# Altium footprint library PCB1.PcbLib: 24 footprints (part 1 of 2)
Each footprint in its own frame and in the unit in brackets; x right, y up, seen from the top. Pads: shape width x height; smd on the part's side, far side on the other; paste and mask are expansions set on the pad; w line width, h text height; cw(c..) or ccw(c..) is an arc to the next point about the centre after c.
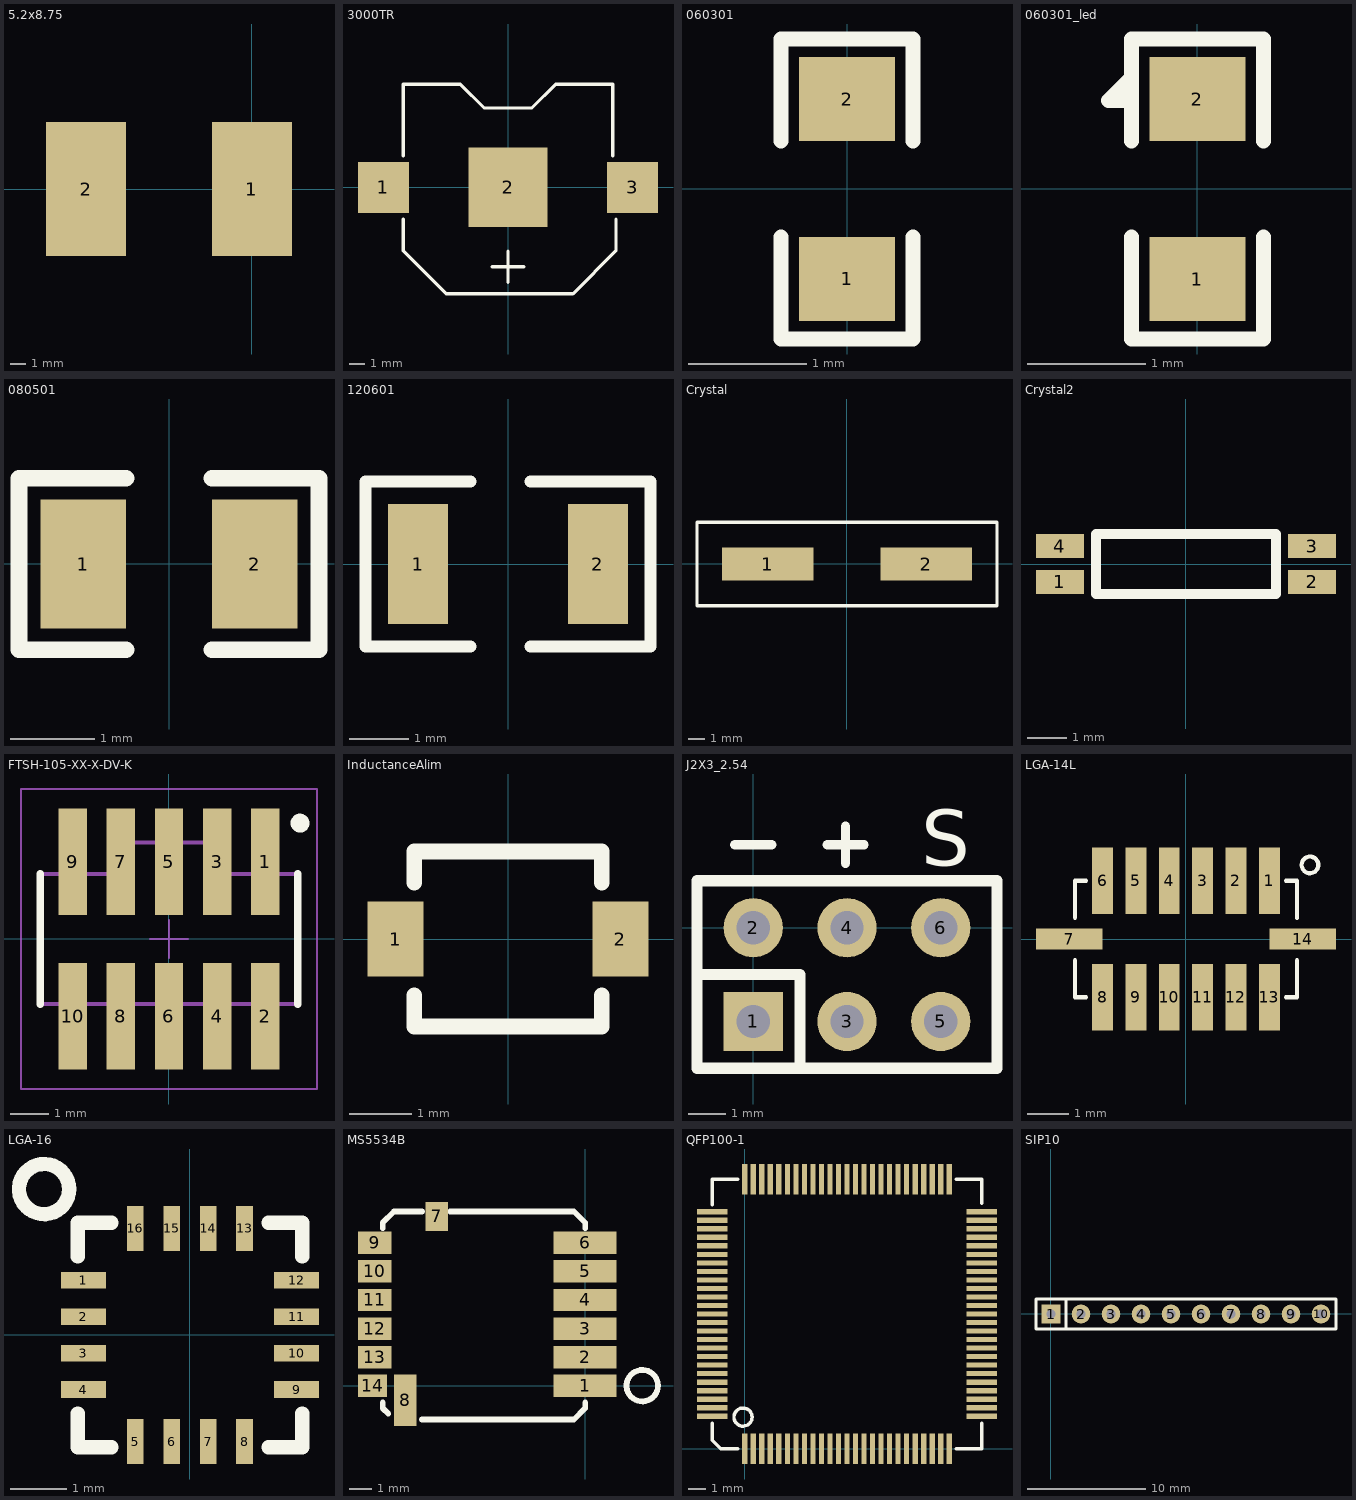
[diagram p0: the footprints below, top view; thin cyan lines are the x and y axes]

## 5.2x8.75 [mm] "PowerResistorFootPrint"
height 1.1
pads (2):
  rect 5.2x8.75 smd: 1(0,0) 2(-10.8,0)

## 3000TR [mm] "HOLDER BATTERY COIN 12MM DIA SMD"
height 3.2
pads (3):
  rect 3.2x3.2 smd: 1(-7.85,0) 3(7.85,0)
  rect 5x5 smd: 2(0,0)
Top Overlay:
  lines w0.2: -6.6,-2 -6.6,-4 -3.9,-6.7 -2,-6.7 2,-6.7 4.1,-6.7 6.8,-4 6.8,-2 ; -6.6,2 -6.6,6.5 -3,6.5 -1.5,5 1.5,5 3,6.5 6.6,6.5 6.6,2 ; -1,-5 1,-5 ; 0,-6 0,-4

## 060301 [mil]
height 43.31
pads (2):
  rect 32.01x27.99 smd: 1(0,-30) 2(0,30)
Top Overlay:
  lines w5: -22,-16 -22,-50 22,-50 22,-16 ; -22,16 -22,50 22,50 22,16

## 060301_led [mil] "LED"
height 43.31
pads (2):
  rect 32.01x27.99 smd: 1(0,-30) 2(0,30)
Top Overlay:
  lines w5: -22,-16 -22,-50 22,-50 22,-16 ; -22,16 -22,50 22,50 22,16 ; -22,29.53 -29.53,29.53 -22,37.06

## 080501 [mil]
height 43.31
pads (2):
  rect 40x60 smd: 1(-40,0) 2(40,0)
Top Overlay:
  lines w7.87: -20,-40 -70,-40 -70,40 -20,40 ; 20,-40 70,-40 70,40 20,40

## 120601 [mil]
pads (2):
  rect 40x80 smd: 1(-60,0) 2(60,0)
Top Overlay:
  lines w7.87: -25,-55 -95,-55 -95,-45 -95,55 -25,55 ; 15,-55 95,-55 95,55 15,55

## Crystal [mm]
height 1.1
pads (2):
  rect 5.5x2 smd: 1(-4.75,0) 2(4.75,0)
Top Overlay:
  lines w0.2: -9,-2.5 9,-2.5 9,2.5 -9,2.5 -9,0 -9,-2.5

## Crystal2 [mm]
height 2.5
pads (4):
  rect 1.2x0.6 smd: 1(-3.15,-0.45) 2(3.15,-0.45) 3(3.15,0.45) 4(-3.15,0.45)
Top Overlay:
  lines w0.254: -2.25,-0.75 -2.25,0.75 2.25,0.75 2.25,-0.75 -2.25,-0.75

## FTSH-105-XX-X-DV-K [mm] "1.27mm pitch, 10 pin, terminal strip; keyed"
height 5.97
pads (10):
  rect 0.75x2.8 smd mask+0: 1(2.54,2.03) 2(2.54,-2.03) 3(1.27,2.03) 4(1.27,-2.03) 5(0,2.03) 6(0,-2.03) 7(-1.27,2.03) 8(-1.27,-2.03) 9(-2.54,2.03) 10(-2.54,-2.03)
Top Overlay:
  circle w0.25: c3.45,3.05 r0.125
  lines w0.2: -3.391,-1.715 -3.391,1.715 ; 3.391,-1.715 3.391,1.715
Mechanical 12:
  lines w0.001: -3.391,-1.715 -3.391,1.715 -1.08,1.715 -1.08,2.54 1.08,2.54 1.08,1.715 3.384,1.715 3.391,1.708 3.391,-1.715 -3.391,-1.715
Mechanical 13:
  lines w0.1: -3.391,-1.708 -3.384,-1.715 ; 3.384,1.715 1.08,1.715 1.08,2.54 -1.08,2.54 -1.08,1.715 -3.391,1.715 -3.391,-1.715 3.391,-1.715 3.391,1.708
  text ".Designator" at 0.254,0.254 h1.52
Mechanical 15:
  lines w0.05: -0.5,0 0.5,0 ; 0,-0.5 0,0.5 ; -3.9,-3.95 -3.9,3.95 3.9,3.95 3.9,-3.95 -3.9,-3.95

## InductanceAlim [mm]
height 1.1
pads (2):
  rect 0.9x1.2 smd: 1(-1.8,0) 2(1.8,0)
Top Overlay:
  lines w0.254: -1.5,-0.9 -1.5,-1.4 1.5,-1.4 1.5,-0.9 ; -1.5,0.9 -1.5,1.4 1.5,1.4 1.5,0.9

## J2X3_2.54 [mm]
height 1.1
pads (6):
  rect 1.6x1.6 hole 0.9: 1(0,-2.54)
  round 1.6 hole 0.9: 2(0,0) 3(2.54,-2.54) 4(2.54,0) 5(5.08,-2.54) 6(5.08,0)
Top Overlay:
  lines w0.254: -0.5,2.25 0.5,2.25 ; 2,2.25 3,2.25 ; 2.5,1.75 2.5,2.75
  lines w0.3: -1.524,-1.27 1.27,-1.27 1.27,-3.81
  lines w0.305: -1.524,-3.81 -1.524,1.27 6.604,1.27 6.604,-3.81 -1.524,-3.81
  text "S" at 4.55,1.675 h1.52

## LGA-14L [mm]
height 1.1
pads (14):
  rect 0.5x1.6 smd: 1(2,1.4) 2(1.2,1.4) 3(0.4,1.4) 4(-0.4,1.4) 5(-1.2,1.4) 6(-2,1.4) 8(-2,-1.4) 9(-1.2,-1.4) 10(-0.4,-1.4) 11(0.4,-1.4) 12(1.2,-1.4) 13(2,-1.4)
  rect 1.6x0.5 smd: 7(-2.8,0) 14(2.8,0)
Top Overlay:
  circle w0.1: c2.975,1.778 r0.2
  lines w0.1: -2.667,-0.511 -2.667,-1.4 -2.4,-1.4 ; -2.667,0.511 -2.667,1.4 -2.4,1.4 ; 2.4,-1.4 2.667,-1.4 2.667,-0.511 ; 2.4,1.397 2.667,1.397 2.667,0.508

## LGA-16 [mm]
height 1.1
pads (16):
  rect 0.8x0.3 smd: 1(-1.9,0.975) 2(-1.9,0.325) 3(-1.9,-0.325) 4(-1.9,-0.975) 9(1.9,-0.975) 10(1.9,-0.325) 11(1.9,0.325) 12(1.9,0.975)
  rect 0.3x0.8 smd: 5(-0.975,-1.9) 6(-0.325,-1.9) 7(0.325,-1.9) 8(0.975,-1.9) 13(0.975,1.9) 14(0.325,1.9) 15(-0.325,1.9) 16(-0.975,1.9)
Top Overlay:
  circle w0.254: c-2.6,2.6 r0.447
  lines w0.254: -2,-1.4 -2,-2 -1.4,-2 ; -2,1.4 -2,2 -1.4,2 ; 1.4,-2 2,-2 2,-1.4 ; 1.4,2 2,2 2,1.4

## MS5534B [mm] "Barometer Module"
height 4.3
pads (14):
  rect 2.8x1 smd: 1(0,0) 2(0,1.27) 3(0,2.54) 4(0,3.81) 5(0,5.08) 6(0,6.35)
  rect 1x1.3 smd: 7(-6.6,7.525)
  rect 1x2.3 smd: 8(-8,-0.65)
  rect 1.5x1 smd: 9(-9.35,6.35) 10(-9.35,5.08) 11(-9.35,3.81) 12(-9.35,2.54) 13(-9.35,1.27)
  rect 1.3x1 smd: 14(-9.45,0)
Top Overlay:
  circle w0.254: c2.54,0 r0.7
  lines w0.254: -9,-0.75 -9,-1 -8.75,-1.25 ; -9,7 -9,7.25 -8.5,7.75 -7.25,7.75 ; -7.25,-1.5 -0.5,-1.5 0,-1 0,-0.75 ; -6,7.75 -5.75,7.75 -0.5,7.75 0,7.25 0,7

## QFP100-1 [mil]
height 43.31
pads (100):
  rect 12.01x70.98 smd: 1(0,0) 2(19.69,0)
  rect 12x71 smd: 3(39.37,0) 4(59.06,0) 5(78.74,0) 6(98.43,0) 7(118.11,0) 8(137.8,0) 9(157.48,0) 10(177.17,0) 11(196.85,0) 12(216.54,0) 13(236.22,0) 14(255.91,0) 15(275.59,0) 16(295.28,0) 17(314.96,0) 18(334.65,0) 19(354.33,0) 20(374.02,0) 21(393.7,0) 22(413.39,0) 23(433.07,0) 24(452.76,0) 25(472.44,0) 51(472.44,622.05) 52(452.76,622.05) 53(433.07,622.05) 54(413.39,622.05) 55(393.7,622.05) 56(374.02,622.05) 57(354.33,622.05) 58(334.65,622.05) 59(314.96,622.05) 60(295.28,622.05) 61(275.59,622.05) 62(255.91,622.05) 63(236.22,622.05) 64(216.54,622.05) 65(196.85,622.05) 66(177.17,622.05) 67(157.48,622.05) 68(137.8,622.05) 69(118.11,622.05) 70(98.43,622.05) 71(78.74,622.05) 72(59.06,622.05) 73(39.37,622.05) 74(19.69,622.05) 75(0,622.05)
  rect 71x12 smd: 26(547.24,74.8) 27(547.24,94.49) 28(547.24,114.17) 29(547.24,133.86) 30(547.24,153.54) 31(547.24,173.23) 32(547.24,192.91) 33(547.24,212.6) 34(547.24,232.28) 35(547.24,251.97) 36(547.24,271.65) 37(547.24,291.34) 38(547.24,311.02) 39(547.24,330.71) 40(547.24,350.39) 41(547.24,370.08) 42(547.24,389.76) 43(547.24,409.45) 44(547.24,429.13) 45(547.24,448.82) 46(547.24,468.5) 47(547.24,488.19) 48(547.24,507.87) 49(547.24,527.56) 50(547.24,547.24) 77(-74.8,527.56) 78(-74.8,507.87) 79(-74.8,488.19) 80(-74.8,468.5) 81(-74.8,448.82) 82(-74.8,429.13) 83(-74.8,409.45) 84(-74.8,389.76) 85(-74.8,370.08) 86(-74.8,350.39) 87(-74.8,330.71) 88(-74.8,311.02) 89(-74.8,291.34) 90(-74.8,271.65) 91(-74.8,251.97) 92(-74.8,232.28) 93(-74.8,212.6) 94(-74.8,192.91) 95(-74.8,173.23) 96(-74.8,153.54) 97(-74.8,133.86) 98(-74.8,114.17) 99(-74.8,94.49) 100(-74.8,74.8)
  rect 70.98x12.01 smd: 76(-74.8,547.24)
Top Overlay:
  circle w8: c-3.94,72.83 r20.93
  lines w7.87: -74.8,59.05 -74.8,19.68 -55.12,0 -15.75,0 ; -74.8,562.99 -74.8,622.05 -15.75,622.05 ; 488.19,0 547.24,0 547.24,59.05 ; 488.19,622.05 547.24,622.05 547.24,566.93

## SIP10 [mil]
height 43.31
pads (10):
  rect 62x63 hole 31.5: 1(0,0)
  oval 62x63 hole 31.5: 2(100,0) 3(200,0) 4(300,0) 5(400,0) 6(500,0) 7(600,0) 8(700,0) 9(800,0) 10(900,0)
Top Overlay:
  lines w10: 50,-50 50,50 ; -50,-50 -50,50 950,50 950,-50 -50,-50